# Altium footprint library PCB Library.PcbLib: 18 footprints (part 2 of 2)
Each footprint in its own frame and in the unit in brackets; x right, y up, seen from the top. Pads: shape width x height; smd on the part's side, far side on the other; paste and mask are expansions set on the pad; w line width, h text height; cw(c..) or ccw(c..) is an arc to the next point about the centre after c.
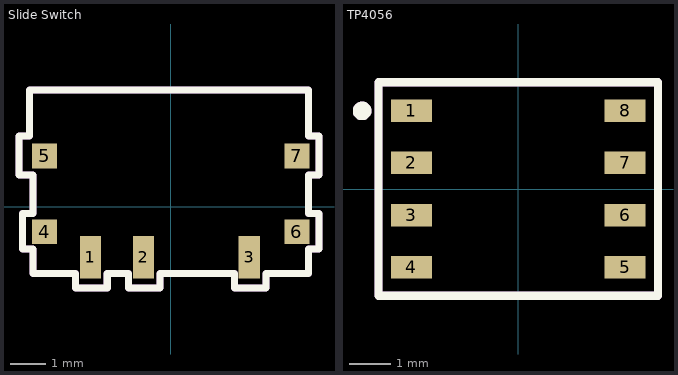
[diagram p1: the footprints below, top view; thin cyan lines are the x and y axes]

## Slide Switch [mm]
pads (7):
  rect 0.6x1.2 smd: 1(-2.275,-1.435) 2(-0.775,-1.435) 3(2.225,-1.435)
  rect 0.7x0.7 smd: 4(-3.575,-0.715) 5(-3.575,1.435) 6(3.575,-0.715) 7(3.575,1.435)
Top Overlay:
  lines w0.2: -4.3,0.9 -3.9,0.9 -3.9,-0.2 -4.2,-0.2 -4.2,-1.2 -3.9,-1.2 -3.9,-1.9 -2.7,-1.9 -2.7,-2.3 -1.8,-2.3 -1.8,-1.9 -1.2,-1.9 -1.2,-2.3 -0.3,-2.3 -0.3,-1.9 1.8,-1.9 1.8,-2.3 2.7,-2.3 2.7,-1.9 3.9,-1.9 3.9,-1.2 4.2,-1.2 4.2,-0.2 3.9,-0.2 3.9,0.9 4.2,0.9 4.2,2 3.9,2 3.9,3.3 -4,3.3 -4,2 -4.3,2 -4.3,0.9
Assemble Layer:
  lines w0.2: -4.3,0.9 -3.9,0.9 -3.9,-0.2 -4.2,-0.2 -4.2,-1.2 -3.9,-1.2 -3.9,-1.9 -2.7,-1.9 -2.7,-2.3 -1.8,-2.3 -1.8,-1.9 -1.2,-1.9 -1.2,-2.3 -0.3,-2.3 -0.3,-1.9 1.8,-1.9 1.8,-2.3 2.7,-2.3 2.7,-1.9 3.9,-1.9 3.9,-1.2 4.2,-1.2 4.2,-0.2 3.9,-0.2 3.9,0.9 4.2,0.9 4.2,2 3.9,2 3.9,3.3 -4,3.3 -4,2 -4.3,2 -4.3,0.9
  text "'.Designator'" at -2.7,0.367 h0.5
3D body "CUS-12TB.stp": height 1.41, standoff -0.49, extent -3.875,-1.835 3.825,3.165

## TP4056 [mm]
pads (8):
  rect 1x0.55 smd: 1(-2.6,1.905) 2(-2.6,0.635) 3(-2.6,-0.635) 4(-2.6,-1.905) 5(2.6,-1.905) 6(2.6,-0.635) 7(2.6,0.635) 8(2.6,1.905)
Top Overlay:
  circle w0.254: c-3.8,1.9 r0.1
  lines w0.2: -3.4,-2.6 3.4,-2.6 3.4,2.6 -3.4,2.6 -3.4,-2.6
Assemble Layer:
  circle w0.254: c-3.8,1.9 r0.1
  lines w0.2: -3.4,-2.6 3.4,-2.6 3.4,2.6 -3.4,2.6 -3.4,-2.6
  text "'.Designator'" at -2.5,-0.133 h0.5
3D body "Tp4056.stp": height 1.38, standoff -0.17, extent -3,-2.45 3,2.45